# EAGLE library part C17 (library con-ninigi-3.96)
NINIGI
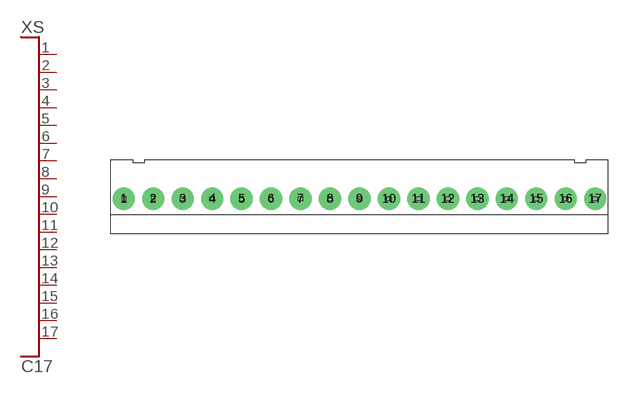
[diagram p11: symbol with the pads of NINIGI17C; footprint NINIGI17C]

Designator prefix XS

## C17  [NINIGI17C]
1  P$1
2  P$2
3  P$3
4  P$4
5  P$5
6  P$6
7  P$7
8  P$8
9  P$9
10  P$10
11  P$11
12  P$12
13  P$13
14  P$14
15  P$15
16  P$16
17  P$17

## Footprint NINIGI17C (pad centres in mm)
drill 1.6 pad 3: 1 -31.68,0; 2 -27.72,0; 3 -23.76,0; 4 -19.8,0; 5 -15.84,0; 6 -11.88,0; 7 -7.92,0; 8 -3.96,0; 9 0,0; 10 3.96,0; 11 7.92,0; 12 11.88,0; 13 15.84,0; 14 19.8,0; 15 23.76,0; 16 27.72,0; 17 31.68,0